# Altium schematic symbol library Comp.SchLib: 3 symbols
Pins are listed as number, name and electrical type; pins without a type are passive.

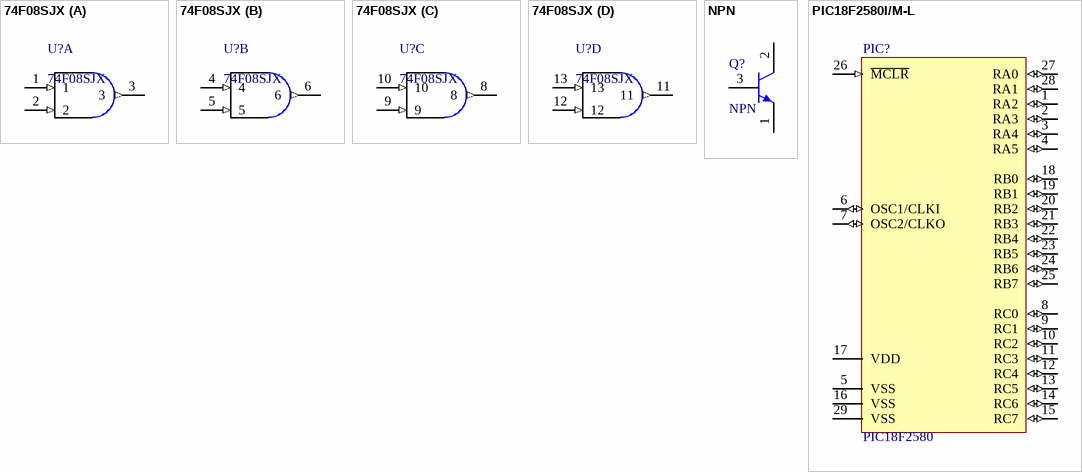
[diagram p0: symbols 74F08SJX to PIC18F2580I/M-L]

## 74F08SJX
designator U?
Quad 2-Input AND Gate
footprint DIP14 (Dual Inline Pin 14)
pins on every part: 7 (power) hidden to GND
part A pins: 1 (in), 2 (in), 3 (out), 14 (power) hidden to VCC
part B pins: 4 (in), 5 (in), 6 (out)
part C pins: 8 (out), 9 (in), 10 (in)
part D pins: 11 (out), 12 (in), 13 (in)

## NPN
designator Q?
Transistor, NPN Generic
footprint BCY-W3 (TO, Flat Index; 3 In-Line, Axial Leads; Body Dia. 4.8mm; Leads 0.61 x 0.61 mm (max))
pins: 1, 2, 3

## PIC18F2580I/M-L
designator PIC?, comment PIC18F2580
Microchip PIC18F2580I/M-L
footprint QFN6X6-28 (Quad Flat No Lead, Plastic, Punch; 28 Terminals; Body 6 x 6 mm; Pitch 0.65 mm)
pins: 1 RA2 (io), 2 RA3 (io), 3 RA4 (io), 4 RA5 (io), 5 VSS (power), 6 OSC1/CLKI (io), 7 OSC2/CLKO (io), 8 RC0 (io), 9 RC1 (io), 10 RC2 (io), 11 RC3 (io), 12 RC4 (io), 13 RC5 (io), 14 RC6 (io), 15 RC7 (io), 16 VSS (power), 17 VDD (power), 18 RB0 (io), 19 RB1 (io), 20 RB2 (io), 21 RB3 (io), 22 RB4 (io), 23 RB5 (io), 24 RB6 (io), 25 RB7 (io), 26 ~{MCLR} (in), 27 RA0 (io), 28 RA1 (io), 29 VSS (power)